# Altium schematic symbol library EEU-HD1HR10.SchLib: 1 symbol
Pins are listed as number, name and electrical type; pins without a type are passive.

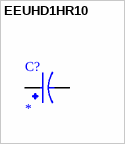
[diagram p0: symbol EEUHD1HR10]

## EEUHD1HR10
designator C?
MF: {'manufacturer': u'Panasonic'}; MP: EEUHD1HR10; Package: None; Price: None; Value: *; Availability: Unavailable
footprint CAP_ALUM_5x11_RM2.5
pins: 1 P, 2 N